# EAGLE library part 50281-024 (library con-aces-50281-series)
ACES CONNECTORS 50281 SERIES ACES Connecors 50281
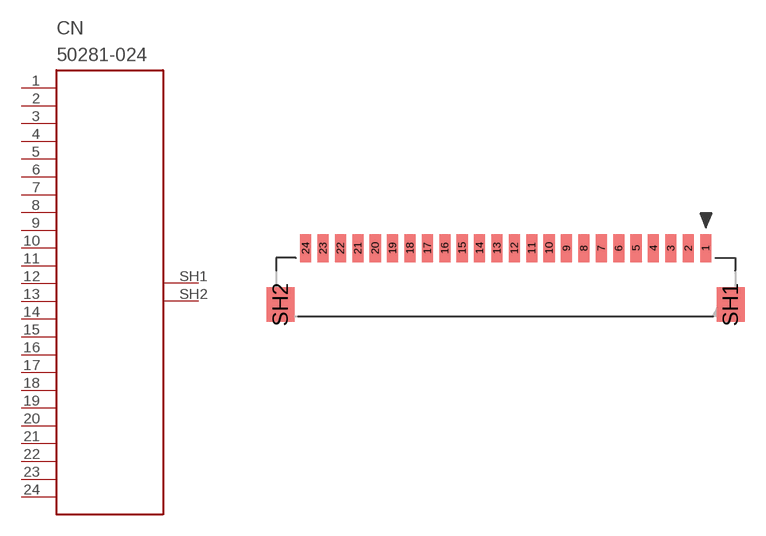
[diagram p15: symbol with the pads of 50281-024; footprint 50281-024]

Designator prefix CN

## 50281-024  [50281-024]
1  1
2  2
3  3
4  4
5  5
6  6
7  7
8  8
9  9
10  10
11  11
12  12
13  13
14  14
15  15
16  16
17  17
18  18
19  19
20  20
21  21
22  22
23  23
24  24
SH1  SH1
SH2  SH2

## Footprint 50281-024 (pad centres in mm)
smd 0.8 x 2: 1 14.375,1.9; 2 13.125,1.9; 3 11.875,1.9; 4 10.625,1.9; 5 9.375,1.9; 6 8.125,1.9; 7 6.875,1.9; 8 5.625,1.9; 9 4.375,1.9; 10 3.125,1.9; 11 1.875,1.9; 12 0.625,1.9; 13 -0.625,1.9; 14 -1.875,1.9; 15 -3.125,1.9; 16 -4.375,1.9; 17 -5.625,1.9; 18 -6.875,1.9; 19 -8.125,1.9; 20 -9.375,1.9; 21 -10.625,1.9; 22 -11.875,1.9; 23 -13.125,1.9; 24 -14.375,1.9
smd 2 x 2.5: SH1 16.175,-2.15; SH2 -16.175,-2.15